# Altium footprint library gateway.PcbLib: 15 footprints
Each footprint in its own frame and in the unit in brackets; x right, y up, seen from the top. Pads: shape width x height; smd on the part's side, far side on the other; paste and mask are expansions set on the pad; w line width, h text height; cw(c..) or ccw(c..) is an arc to the next point about the centre after c.
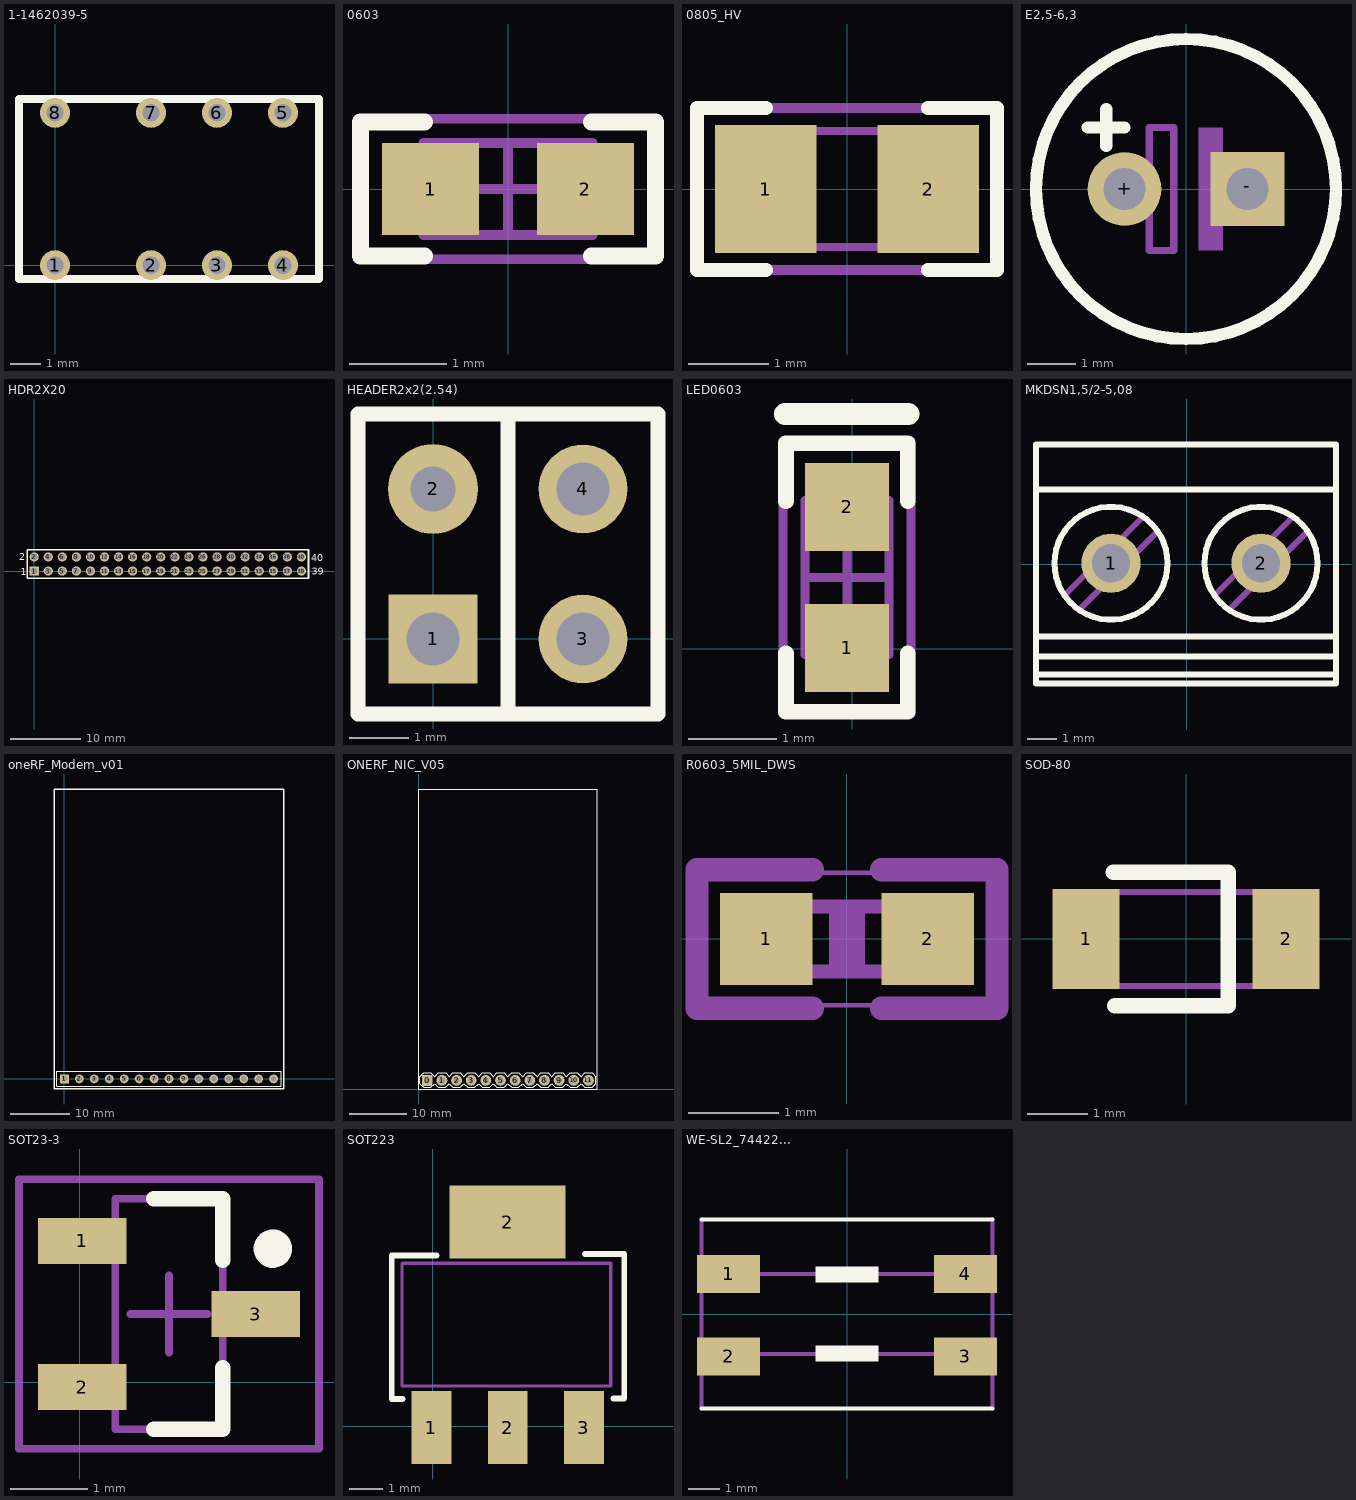
[diagram p0: the footprints below, top view; thin cyan lines are the x and y axes]

## 1-1462039-5 [mm] "Rele 1-1462039-5"
pads (8):
  round 1 hole 0.58: 1(0,0) 2(3.2,0) 3(5.4,0) 4(7.6,0) 5(7.6,5.08) 6(5.4,5.08) 7(3.2,5.08) 8(0,5.08)
Top Overlay:
  lines w0.254: -1.2,-0.46 8.8,-0.46 8.8,5.54 -1.2,5.54 -1.2,-0.46

## 0603 [mm]
pads (2):
  rect 1x0.95 smd: 1(-0.8,0) 2(0.8,0)
Top Overlay:
  lines w0.178: -0.864,-0.691 -1.524,-0.691 -1.524,0.693 -0.864,0.693 ; 0.864,-0.691 1.524,-0.691 1.524,0.693 0.864,0.693
Mechanical 5:
  lines w0.1: -1.55,-0.725 -1.55,0.725 1.55,0.725 1.55,-0.725 -1.55,-0.725
Mechanical 13:
  lines w0.1: -0.55,-0.475 -0.55,0.475 ; 0.55,-0.475 0.55,0.475 ; -0.875,-0.475 0.875,-0.475 0.875,0.475 -0.875,0.475 -0.875,-0.475
Mechanical 15:
  lines w0.1: -0.475,0 0.475,0 ; 0,-0.475 0,0.475 ; -1.55,-0.725 1.55,-0.725 1.55,0.725 -1.55,0.725 -1.55,-0.725
3D body: height 0.85, standoff 0, extent -0.874,-0.474 -0.551,0.474
3D body: height 0.85, standoff 0, extent -0.549,-0.474 0.549,0.474
3D body: height 0.85, standoff 0, extent 0.551,-0.474 0.874,0.474

## 0805_HV [mil]
pads (2):
  rect 50x63 smd: 1(-40,0) 2(40,0)
Top Overlay:
  lines w7: -40,-40 -74,-40 -74,0 -74,40 -40,40 ; 40,-40 74,-40 74,0 74,40 40,40
Mechanical 5:
  lines w5: -74,-40 -74,40 74,40 74,-40 -74,-40
Mechanical 13:
  lines w3.94: -25.59,-28.54 -25.59,28.54 ; 25.59,-28.54 25.59,28.54 ; -43.31,-28.54 43.31,-28.54 43.31,28.54 -43.31,28.54 -43.31,-28.54
3D body: height 43.31, standoff 0, extent -43.29,-28.52 -25.61,28.52
3D body: height 43.31, standoff 0, extent -25.57,-28.52 25.57,28.52
3D body: height 43.31, standoff 0, extent 25.61,-28.52 43.29,28.52

## E2,5-6,3 [mil] "E2,5-6,3"
pads (2):
  round 60 hole 34: +(-50,0)
  rect 60x60 hole 34: -(50,0)
Top Overlay:
  circle w10: c0,0 r122.05
  lines w10: -80,50 -65,50 ; -65,35 -65,50 ; -65,65 -65,50 ; -50,50 -65,50
Mechanical 16:
  rectangle: 10,-50 30,50
  lines w6: -65,0 -30,0 ; 25,0 65,0 ; -30,0 -30,-50 -10,-50 -10,50 -30,50 -30,0

## HDR2X20 [mm] "Connector; Header; 20x2 Position"
pads (40):
  rect 1.3x1.3 hole 0.9: 1(0,0)
  round 1.3 hole 0.9: 2(0,2) 3(2,0) 4(2,2) 5(4,0) 6(4,2) 7(6,0) 8(6,2) 9(8,0) 10(8,2) 11(10,0) 12(10,2) 13(12,0) 14(12,2) 15(14,0) 16(14,2) 17(16,0) 18(16,2) 19(18,0) 20(18,2) 21(20,0) 22(20,2) 23(22,0) 24(22,2) 25(24,0) 26(24,2) 27(26,0) 28(26,2) 29(28,0) 30(28,2) 31(30,0) 32(30,2) 33(32,0) 34(32,2) 35(34,0) 36(34,2) 37(36,0) 38(36,2) 39(38,0) 40(38,2)
Top Overlay:
  lines w0.2: 39,-1 -1,-1 -1,3 39,3
  lines w0.254: 39,-1 39,3
  text "1" at -1.905,-0.635 h1
  text "2" at -2.159,1.524 h1
  text "40" at 39.37,1.397 h1
  text "39" at 39.497,-0.508 h1
Bottom Overlay:
  lines w0.2: 39,-1 39,3
  lines w0.254: 39,-1 -1,-1 -1,3 39,3

## HEADER2x2(2.54) [mm]
pads (4):
  rect 1.5x1.5 hole 0.9: 1(0,0)
  round 1.524 hole 0.762: 2(0,2.54)
  round 1.5 hole 0.9: 3(2.54,0) 4(2.54,2.54)
Top Overlay:
  lines w0.254: 1.27,-1.27 1.27,3.81 ; -1.27,-1.27 -1.27,3.81 3.81,3.81 3.81,-1.27 -1.27,-1.27

## LED0603 [mm]
pads (2):
  rect 0.95x1 smd: 1(-0.06,0.012) 2(-0.06,1.612)
Top Overlay:
  lines w0.178: -0.753,-0.052 -0.753,-0.712 0.631,-0.712 0.631,-0.052 ; -0.753,1.676 -0.753,2.336 0.631,2.336 0.631,1.676
  lines w0.254: -0.762,2.667 0.635,2.667
Mechanical 5:
  lines w0.1: -0.785,-0.738 -0.785,2.362 0.665,2.362 0.665,-0.738 -0.785,-0.738
Mechanical 13:
  lines w0.1: -0.535,0.262 0.415,0.262 ; -0.535,1.362 0.415,1.362 ; -0.535,-0.063 0.415,-0.063 0.415,1.687 -0.535,1.687 -0.535,-0.063
Mechanical 15:
  lines w0.1: -0.535,0.812 0.415,0.812 ; -0.06,0.337 -0.06,1.287 ; -0.785,-0.738 0.665,-0.738 0.665,2.362 -0.785,2.362 -0.785,-0.738
3D body: height 0.85, standoff 0, extent -0.534,1.363 0.414,1.686
3D body: height 0.85, standoff 0, extent -0.534,0.263 0.414,1.361
3D body: height 0.85, standoff 0, extent -0.534,-0.062 0.414,0.261

## MKDSN1,5/2-5,08 [mm] "MKDSN1,5/2-5,08"
pads (2):
  round 2 hole 1.3: 1(-2.561,0.025) 2(2.519,0.025)
Top Overlay:
  circle w0.203: c2.519,0.025 r1.915
  circle w0.203: c-2.561,0.025 r1.915
  lines w0.203: -5.101,-3.75 -5.101,-4.05 5.059,-4.05 5.059,-3.75 ; -5.101,-3.75 5.059,-3.75 ; -5.101,-3.75 -5.101,-3.327 -5.101,-3.128 ; -5.101,-3.128 5.059,-3.128 ; -5.101,-3.128 -5.101,-2.913 -5.101,-2.448 ; -5.101,-2.448 5.059,-2.448 ; -5.101,-2.448 -5.101,-1.956 -5.101,2.041 -5.101,2.524 ; -5.101,2.524 -5.101,4.05 5.059,4.05 5.059,2.524 ; -5.101,2.524 5.059,2.524 ; 5.059,-3.75 5.059,-3.128 ; 5.059,-3.128 5.059,-2.448 ; 5.059,-2.448 5.059,-1.956 5.059,2.041 5.059,2.524
Mechanical 16:
  lines w0.203: -4.129,-1.048 -3.2,-0.119 ; -3.634,-1.543 -2.721,-0.63 ; -1.488,1.593 -2.442,0.639 ; -0.993,1.098 -1.931,0.16 ; 0.951,-1.048 1.88,-0.119 ; 1.446,-1.543 2.359,-0.63 ; 3.592,1.593 2.638,0.639 ; 4.087,1.098 3.149,0.16 ; -3.2,-0.119 ccw(c-2.561,0) -2.721,-0.63 ; -3.2,-0.119 -2.561,0.52 -2.442,0.639 ; -2.721,-0.63 -2.561,-0.47 -1.931,0.16 ; -2.442,0.639 cw(c-2.561,0) -1.931,0.16 ; 1.88,-0.119 ccw(c2.519,0) 2.359,-0.63 ; 1.88,-0.119 2.519,0.52 2.638,0.639 ; 2.359,-0.63 2.519,-0.47 3.149,0.16 ; 2.638,0.639 cw(c2.519,0) 3.149,0.16

## oneRF_Modem_v01 [mm] "oneRF_Modem_v01"
pads (15):
  rect 1.5x1.5 hole 0.9: 1(0,0)
  round 1.5 hole 0.9: 2(2.54,0) 3(5.08,0) 4(7.62,0) 5(10.16,0) 6(12.7,0) 7(15.24,0) 8(17.78,0) 9(20.32,0) 10(22.86,0) 11(25.4,0) 12(27.94,0) 13(30.48,0) 14(33.02,0) 15(35.56,0)
Top Overlay:
  lines w0.2: -1.27,-1.27 36.83,-1.27 36.83,1.27 0.635,1.27 -1.27,1.27 -1.27,-1.27
  lines w0.254: -1.72,-1.72 -1.72,49.28 37.28,49.28 37.28,-1.72 -1.72,-1.72

## ONERF_NIC_V05 [mil] "ONERF_NIC_V05"
pads (12):
  rect 74x74 hole 40: 0(59.06,59.06)
  round 74 hole 40: 1(159.06,59.06) 2(259.06,59.06) 3(359.06,59.06) 4(459.06,59.06) 5(559.06,59.06) 6(659.06,59.06) 7(759.06,59.06) 8(859.06,59.06) 9(959.06,59.06) 10(1059.06,59.06) 11(1159.06,59.06)
Top Overlay:
  lines w5: 0,0 0,2047.24 1220.47,2047.24 1220.47,0 0,0
  lines w8: 9.25,35.24 9.25,85.24 34.25,110.24 84.25,110.24 109.25,85.24 134.25,110.24 184.25,110.24 209.25,85.24 234.25,110.24 284.25,110.24 309.25,85.24 334.25,110.24 384.25,110.24 409.25,85.24 434.25,110.24 484.25,110.24 509.25,85.24 534.25,110.24 584.25,110.24 609.25,85.24 634.25,110.24 684.25,110.24 709.25,85.24 734.25,110.24 784.25,110.24 809.25,85.24 834.25,110.24 884.25,110.24 909.25,85.24 934.25,110.24 984.25,110.24 1009.25,85.24 1034.25,110.24 1084.25,110.24 1109.25,85.24 1134.25,110.24 1184.25,110.24 1209.25,85.24 1209.25,35.24 1184.25,10.24 1134.25,10.24 1109.25,35.24 1084.25,10.24 1034.25,10.24 1009.25,35.24 984.25,10.24 934.25,10.24 909.25,35.24 884.25,10.24 834.25,10.24 809.25,35.24 784.25,10.24 734.25,10.24 709.25,35.24 684.25,10.24 634.25,10.24 609.25,35.24 584.25,10.24 534.25,10.24 509.25,35.24 484.25,10.24 434.25,10.24 409.25,35.24 384.25,10.24 334.25,10.24 309.25,35.24 284.25,10.24 234.25,10.24 209.25,35.24 184.25,10.24 134.25,10.24 109.25,35.24 84.25,10.24 34.25,10.24 9.25,35.24
Mechanical 16:
  rectangle: 649.25,50.24 669.25,70.24
  rectangle: 549.25,50.24 569.25,70.24
  rectangle: 449.25,50.24 469.25,70.24
  rectangle: 349.25,50.24 369.25,70.24
  rectangle: 249.25,50.24 269.25,70.24
  rectangle: 149.25,50.24 169.25,70.24
  rectangle: 49.25,50.24 69.25,70.24
  rectangle: 749.25,50.24 769.25,70.24
  rectangle: 849.25,50.24 869.25,70.24
  rectangle: 949.25,50.24 969.25,70.24
  rectangle: 1049.25,50.24 1069.25,70.24
  rectangle: 1149.25,50.24 1169.25,70.24

## R0603_5MIL_DWS [mil] "R0603_5MIL_DWS"
pads (2):
  rect 40x40 smd: 1(-35,0) 2(35,0)
Mechanical 6:
  rectangle: -7.87,-15.75 7.87,15.75
Mechanical 16:
  rectangle: -33,-17 -17,17
  rectangle: 17,-17 33,17
  lines w2: -62.99,-28.7 -62.99,28.7 62.99,28.7 62.99,-28.7 -62.99,-28.7
  lines w6: -17.01,-14.02 17.01,-14.02 ; -17.01,14.02 17.01,14.02
  lines w10: -15,-30 -65,-30 -65,30 -15,30 ; 15,-30 65,-30 65,30 15,30

## SOD-80 [mm]
pads (2):
  rect 1.1x1.65 smd: 1(-1.65,0) 2(1.65,0)
Top Overlay:
  lines w0.254: -1.2,1.1 0.675,1.1 ; -1.175,-1.1 0.7,-1.1 0.7,1.1
Mechanical 5:
  lines w0.1: -1.625,-0.775 1.65,-0.775 1.65,0.775 -1.625,0.775 -1.625,-0.775
3D body: height 3.31, standoff 0.69, extent 0.625,-1.3 0.825,1.319
3D body: height 3.5, standoff 0.5, extent -1.86,-1.499 -1.36,1.5
3D body: height 3.5, standoff 0.5, extent 1.29,-1.5 1.79,1.5
3D body: height 3.3, standoff 0.7, extent -1.35,-1.3 1.29,1.3

## SOT23-3 [mm] "BC81740MTF"
pads (3):
  rect 1.15x0.6 smd: 1(0.032,1.839) 2(0.032,-0.061) 3(2.282,0.889)
Top Overlay:
  circle w0.25: c2.507,1.739 r0.125
  lines w0.2: 0.957,-0.611 1.857,-0.611 1.857,0.189 ; 0.957,2.389 1.857,2.389 1.857,1.589
Mechanical 13:
  lines w0.1: 0.457,-0.611 1.857,-0.611 1.857,2.389 0.457,2.389 0.457,-0.611
Mechanical 15:
  lines w0.1: 0.657,0.889 1.657,0.889 ; 1.157,0.389 1.157,1.389 ; -0.793,-0.861 3.107,-0.861 3.107,2.639 -0.793,2.639 -0.793,-0.861
3D body: height 1.1, standoff 0, extent 0.457,-0.611 1.857,2.389

## SOT223 [mm] "SOT223 - Regulador"
pads (4):
  rect 1.2x2.2 smd: 1(-0.035,-0.031) 2(2.265,-0.031) 3(4.565,-0.031)
  rect 3.5x2.2 smd: 2(2.265,6.169)
Top Overlay:
  lines w0.178: -0.905,0.83 -1.233,0.83 -1.233,5.161 0.112,5.161 ; 4.6,5.204 5.781,5.204 5.781,0.844 5.455,0.844
Mechanical 5:
  lines w0.1: -0.923,4.922 -0.923,1.222 5.377,1.222 5.377,4.922 ; -0.922,4.922 5.378,4.922
3D body: height 0.2, standoff 0, extent 0.85,4.997 3.75,6.722
3D body: height 0.2, standoff 0, extent 1.928,-0.603 2.528,1.172
3D body: height 0.2, standoff 0, extent 4.25,-0.55 4.85,1.225
3D body: height 0.2, standoff 0, extent -0.35,-0.55 0.25,1.225
3D body: height 1.8, standoff 0, extent -0.973,1.172 5.428,4.972

## WE-SL2_74422... [mm] "WE-SL2_74422..."
pads (4):
  rect 2x1.2 smd: 1(-3.75,1.27) 2(-3.75,-1.34) 3(3.75,-1.34) 4(3.75,1.27)
Top Overlay:
  region: 1,1.5 -1,1.5 -1,1 1,1
  region: 1,-1 -1,-1 -1,-1.5 1,-1.5
  lines w0.127: -4.6,-3 4.6,-3 ; -4.6,3 4.6,3
Mechanical 16:
  lines w0.127: -4.6,-3 -4.6,3 ; -3.81,-1.27 3.81,-1.27 ; -3.81,1.27 3.81,1.27 ; 4.6,-3 4.6,3